# Altium schematic symbol library Terminal_Blocks_Spring_Clamp_2.54mm.SchLib: 12 symbols
Pins are listed as number, name and electrical type; pins without a type are passive.

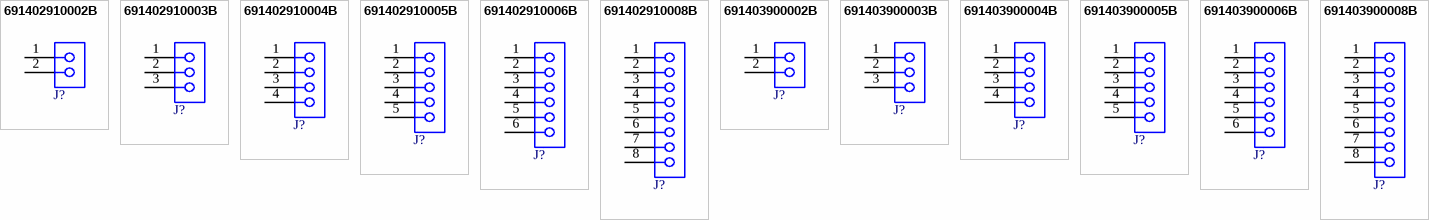
[diagram p0: symbols 691402910002B to 691403900008B]

## 691402910002B
designator J?, comment 6A, 150V  (value not drawn)
WR-TBL Series 4029 Horizontal Entry, THT, pitch 2.54mm, 2p; Manufacturer Part Number: 691402910002B; Manufacturer: Wurth Elektronik; Modularity: No; ComponentLink1Description: Datasheet Link; ComponentLink1URL: https://www.we-online.com/redexpert/spec/691402910002B?ad; ComponentLink2Description: Supplier 1 URL; ComponentLink2URL: N/A; Category: Terminal Blocks; Match Code: WR-TBL; Mount: Through Hole; Operating Temperature Max: 105°C; Operating Temperature Min: -40°C; Packaging: Box; Application: Screwless; Number of Pins: 2; Number of Rows: 1; Orientation: Horizontal; Pitch: 2.54mm; Rated Current: 6A; Working Voltage: 150V; ComponentLink3Description: Supplier 2 URL; ComponentLink3URL: N/A; ComponentLink4Description: Supplier 3 URL; ComponentLink4URL: https://www.thegioiic.com/kf141-2-54-2-r-terminal-block-2-tiep-diem-cam-day-ngang-2-54mm-150v-2a; Supplier 1 Name: Mouser; Supplier 1 SN: N/A; Supplier 1 URL: N/A; Supplier 2 Name: Digi-Key; Supplier 2 SN: N/A; Supplier 2 URL: N/A; Supplier 3 Name: thegioiic; Supplier 3 SN: N/A; Supplier 3 URL: https://www.thegioiic.com/kf141-2-54-2-r-terminal-block-2-tiep-diem-cam-day-ngang-2-54mm-150v-2a; Value: 6A, 150V
footprint 691402910002B
pins: 1, 2

## 691402910003B
designator J?, comment 6A, 150V  (value not drawn)
WR-TBL Series 4029 Horizontal Entry, THT, pitch 2.54mm, 3p; Manufacturer Part Number: 691402910003B; Manufacturer: Wurth Elektronik; Modularity: No; ComponentLink1Description: Datasheet Link; ComponentLink1URL: https://www.we-online.com/redexpert/spec/691402910003B?ad; ComponentLink2Description: Supplier 1 URL; ComponentLink2URL: N/A; Category: Terminal Blocks; Match Code: WR-TBL; Mount: Through Hole; Operating Temperature Max: 105°C; Operating Temperature Min: -40°C; Packaging: Box; Application: Screwless; Number of Pins: 3; Number of Rows: 1; Orientation: Horizontal; Pitch: 2.54mm; Rated Current: 6A; Working Voltage: 150V; ComponentLink3Description: Supplier 2 URL; ComponentLink3URL: N/A; ComponentLink4Description: Supplier 3 URL; ComponentLink4URL: https://www.thegioiic.com/kf141-2-54-3-r-terminal-block-3-tiep-diem-cam-day-ngang-2-54mm-150v-2a; Supplier 1 Name: Mouser; Supplier 1 SN: N/A; Supplier 1 URL: N/A; Supplier 2 Name: Digi-Key; Supplier 2 SN: N/A; Supplier 2 URL: N/A; Supplier 3 Name: thegioiic; Supplier 3 SN: N/A; Supplier 3 URL: https://www.thegioiic.com/kf141-2-54-3-r-terminal-block-3-tiep-diem-cam-day-ngang-2-54mm-150v-2a; Value: 6A, 150V
footprint 691402910003B
pins: 1, 2, 3

## 691402910004B
designator J?, comment 6A, 150V  (value not drawn)
WR-TBL Series 4029 Horizontal Entry, THT, pitch 2.54mm, 4p; Manufacturer Part Number: 691402910004B; Manufacturer: Wurth Elektronik; Modularity: No; ComponentLink1Description: Datasheet Link; ComponentLink1URL: https://www.we-online.com/redexpert/spec/691402910004B?ad; ComponentLink2Description: Supplier 1 URL; ComponentLink2URL: N/A; Category: Terminal Blocks; Match Code: WR-TBL; Mount: Through Hole; Operating Temperature Max: 105°C; Operating Temperature Min: -40°C; Packaging: Box; Application: Screwless; Number of Pins: 4; Number of Rows: 1; Orientation: Horizontal; Pitch: 2.54mm; Rated Current: 6A; Working Voltage: 150V; ComponentLink3Description: Supplier 2 URL; ComponentLink3URL: N/A; ComponentLink4Description: Supplier 3 URL; ComponentLink4URL: https://www.thegioiic.com/kf141-2-54-4-r-terminal-block-4-tiep-diem-cam-day-ngang-2-54mm-150v-2a; Supplier 1 Name: Mouser; Supplier 1 SN: N/A; Supplier 1 URL: N/A; Supplier 2 Name: Digi-Key; Supplier 2 SN: N/A; Supplier 2 URL: N/A; Supplier 3 Name: thegioiic; Supplier 3 SN: N/A; Supplier 3 URL: https://www.thegioiic.com/kf141-2-54-4-r-terminal-block-4-tiep-diem-cam-day-ngang-2-54mm-150v-2a; Value: 6A, 150V
footprint 691402910004B
pins: 1, 2, 3, 4

## 691402910005B
designator J?, comment 6A, 150V  (value not drawn)
WR-TBL Series 4029 Horizontal Entry, THT, pitch 2.54mm, 5p; Manufacturer Part Number: 691402910005B; Manufacturer: Wurth Elektronik; Modularity: No; ComponentLink1Description: Datasheet Link; ComponentLink1URL: https://www.we-online.com/redexpert/spec/691402910005B?ad; ComponentLink2Description: Supplier 1 URL; ComponentLink2URL: N/A; Category: Terminal Blocks; Match Code: WR-TBL; Mount: Through Hole; Operating Temperature Max: 105°C; Operating Temperature Min: -40°C; Packaging: Box; Application: Screwless; Number of Pins: 5; Number of Rows: 1; Orientation: Horizontal; Pitch: 2.54mm; Rated Current: 6A; Working Voltage: 150V; ComponentLink3Description: Supplier 2 URL; ComponentLink3URL: N/A; ComponentLink4Description: Supplier 3 URL; ComponentLink4URL: https://www.thegioiic.com/kf141-2-54-5-r-terminal-block-5-tiep-diem-cam-day-ngang-2-54mm-150v-2a; Supplier 1 Name: Mouser; Supplier 1 SN: N/A; Supplier 1 URL: N/A; Supplier 2 Name: Digi-Key; Supplier 2 SN: N/A; Supplier 2 URL: N/A; Supplier 3 Name: thegioiic; Supplier 3 SN: N/A; Supplier 3 URL: https://www.thegioiic.com/kf141-2-54-5-r-terminal-block-5-tiep-diem-cam-day-ngang-2-54mm-150v-2a; Value: 6A, 150V
footprint 691402910005B
pins: 1, 2, 3, 4, 5

## 691402910006B
designator J?, comment 6A, 150V  (value not drawn)
WR-TBL Series 4029 Horizontal Entry, THT, pitch 2.54mm, 6p; Manufacturer Part Number: 691402910006B; Manufacturer: Wurth Elektronik; Modularity: No; ComponentLink1Description: Datasheet Link; ComponentLink1URL: https://www.we-online.com/redexpert/spec/691402910006B?ad; ComponentLink2Description: Supplier 1 URL; ComponentLink2URL: N/A; Category: Terminal Blocks; Match Code: WR-TBL; Mount: Through Hole; Operating Temperature Max: 105°C; Operating Temperature Min: -40°C; Packaging: Box; Application: Screwless; Number of Pins: 6; Number of Rows: 1; Orientation: Horizontal; Pitch: 2.54mm; Rated Current: 6A; Working Voltage: 150V; ComponentLink3Description: Supplier 2 URL; ComponentLink3URL: N/A; ComponentLink4Description: Supplier 3 URL; ComponentLink4URL: https://www.thegioiic.com/kf141-2-54-6-r-terminal-block-6-tiep-diem-cam-day-ngang-2-54mm-150v-2a; Supplier 1 Name: Mouser; Supplier 1 SN: N/A; Supplier 1 URL: N/A; Supplier 2 Name: Digi-Key; Supplier 2 SN: N/A; Supplier 2 URL: N/A; Supplier 3 Name: thegioiic; Supplier 3 SN: N/A; Supplier 3 URL: https://www.thegioiic.com/kf141-2-54-6-r-terminal-block-6-tiep-diem-cam-day-ngang-2-54mm-150v-2a; Value: 6A, 150V
footprint 691402910006B
pins: 1, 2, 3, 4, 5, 6

## 691402910008B
designator J?, comment 6A, 150V  (value not drawn)
WR-TBL Series 4029 Horizontal Entry, THT, pitch 2.54mm, 8p; Manufacturer Part Number: 691402910008B; Manufacturer: Wurth Elektronik; Modularity: No; ComponentLink1Description: Datasheet Link; ComponentLink1URL: https://www.we-online.com/redexpert/spec/691402910008B?ad; ComponentLink2Description: Supplier 1 URL; ComponentLink2URL: N/A; Category: Terminal Blocks; Match Code: WR-TBL; Mount: Through Hole; Operating Temperature Max: 105°C; Operating Temperature Min: -40°C; Packaging: Box; Application: Screwless; Number of Pins: 8; Number of Rows: 1; Orientation: Horizontal; Pitch: 2.54mm; Rated Current: 6A; Working Voltage: 150V; ComponentLink3Description: Supplier 2 URL; ComponentLink3URL: N/A; ComponentLink4Description: Supplier 3 URL; ComponentLink4URL: https://www.thegioiic.com/kf141-2-54-8-v-terminal-block-8-tiep-diem-cam-day-doc-2-54mm-150v-2a; Supplier 1 Name: Mouser; Supplier 1 SN: N/A; Supplier 1 URL: N/A; Supplier 2 Name: Digi-Key; Supplier 2 SN: N/A; Supplier 2 URL: N/A; Supplier 3 Name: thegioiic; Supplier 3 SN: N/A; Supplier 3 URL: https://www.thegioiic.com/kf141-2-54-8-v-terminal-block-8-tiep-diem-cam-day-doc-2-54mm-150v-2a; Value: 6A, 150V
footprint 691402910008B
pins: 1, 2, 3, 4, 5, 6, 7, 8

## 691403900002B
designator J?, comment 6A, 150V  (value not drawn)
WR-TBL Series 4039 Vertical Entry, THT, pitch 2.54mm, 2p; Manufacturer Part Number: 691403900002B; Manufacturer: Wurth Elektronik; Modularity: No; ComponentLink1Description: Datasheet Link; ComponentLink1URL: https://www.we-online.com/redexpert/spec/691403900002B?ad; ComponentLink2Description: Supplier 1 URL; ComponentLink2URL: N/A; Category: Terminal Blocks; Match Code: WR-TBL; Mount: Through Hole; Operating Temperature Max: 105°C; Operating Temperature Min: -40°C; Packaging: Box; Application: Screwless; Number of Pins: 2; Number of Rows: 1; Orientation: Vertical; Pitch: 2.54mm; Rated Current: 6A; Working Voltage: 150V; ComponentLink3Description: Supplier 2 URL; ComponentLink3URL: N/A; ComponentLink4Description: Supplier 3 URL; ComponentLink4URL: https://www.thegioiic.com/kf141-2-54-2-v-terminal-block-2-tiep-diem-cam-day-doc-2-54mm-150v-2a; Supplier 1 Name: Mouser; Supplier 1 SN: N/A; Supplier 1 URL: N/A; Supplier 2 Name: Digi-Key; Supplier 2 SN: N/A; Supplier 2 URL: N/A; Supplier 3 Name: thegioiic; Supplier 3 SN: N/A; Supplier 3 URL: https://www.thegioiic.com/kf141-2-54-2-v-terminal-block-2-tiep-diem-cam-day-doc-2-54mm-150v-2a; Value: 6A, 150V
footprint 691403900002B
pins: 1, 2

## 691403900003B
designator J?, comment 6A, 150V  (value not drawn)
WR-TBL Series 4039 Vertical Entry, THT, pitch 2.54mm, 3p; Manufacturer Part Number: 691403900003B; Manufacturer: Wurth Elektronik; Modularity: No; ComponentLink1Description: Datasheet Link; ComponentLink1URL: https://www.we-online.com/redexpert/spec/691403900003B?ad; ComponentLink2Description: Supplier 1 URL; ComponentLink2URL: N/A; Category: Terminal Blocks; Match Code: WR-TBL; Mount: Through Hole; Operating Temperature Max: 105°C; Operating Temperature Min: -40°C; Packaging: Box; Application: Screwless; Number of Pins: 3; Number of Rows: 1; Orientation: Vertical; Pitch: 2.54mm; Rated Current: 6A; Working Voltage: 150V; ComponentLink3Description: Supplier 2 URL; ComponentLink3URL: N/A; ComponentLink4Description: Supplier 3 URL; ComponentLink4URL: https://www.thegioiic.com/kf141-2-54-3-v-terminal-block-3-tiep-diem-cam-day-doc-2-54mm-150v-2a; Supplier 1 Name: Mouser; Supplier 1 SN: N/A; Supplier 1 URL: N/A; Supplier 2 Name: Digi-Key; Supplier 2 SN: N/A; Supplier 2 URL: N/A; Supplier 3 Name: thegioiic; Supplier 3 SN: N/A; Supplier 3 URL: https://www.thegioiic.com/kf141-2-54-3-v-terminal-block-3-tiep-diem-cam-day-doc-2-54mm-150v-2a; Value: 6A, 150V
footprint 691403900003B
pins: 1, 2, 3

## 691403900004B
designator J?, comment 6A, 150V  (value not drawn)
WR-TBL Series 4039 Vertical Entry, THT, pitch 2.54mm, 4p; Manufacturer Part Number: 691403900004B; Manufacturer: Wurth Elektronik; Modularity: No; ComponentLink1Description: Datasheet Link; ComponentLink1URL: https://www.we-online.com/redexpert/spec/691403900004B?ad; ComponentLink2Description: Supplier 1 URL; ComponentLink2URL: N/A; Category: Terminal Blocks; Match Code: WR-TBL; Mount: Through Hole; Operating Temperature Max: 105°C; Operating Temperature Min: -40°C; Packaging: Box; Application: Screwless; Number of Pins: 4; Number of Rows: 1; Orientation: Vertical; Pitch: 2.54mm; Rated Current: 6A; Working Voltage: 150V; ComponentLink3Description: Supplier 2 URL; ComponentLink3URL: N/A; ComponentLink4Description: Supplier 3 URL; ComponentLink4URL: https://www.thegioiic.com/kf141-2-54-4-v-terminal-block-4-tiep-diem-cam-day-doc-2-54mm-150v-2a; Supplier 1 Name: Mouser; Supplier 1 SN: N/A; Supplier 1 URL: N/A; Supplier 2 Name: Digi-Key; Supplier 2 SN: N/A; Supplier 2 URL: N/A; Supplier 3 Name: thegioiic; Supplier 3 SN: N/A; Supplier 3 URL: https://www.thegioiic.com/kf141-2-54-4-v-terminal-block-4-tiep-diem-cam-day-doc-2-54mm-150v-2a; Value: 6A, 150V
footprint 691403900004B
pins: 1, 2, 3, 4

## 691403900005B
designator J?, comment 6A, 150V  (value not drawn)
WR-TBL Series 4039 Vertical Entry, THT, pitch 2.54mm, 5p; Manufacturer Part Number: 691403900005B; Manufacturer: Wurth Elektronik; Modularity: No; ComponentLink1Description: Datasheet Link; ComponentLink1URL: https://www.we-online.com/redexpert/spec/691403900005B?ad; ComponentLink2Description: Supplier 1 URL; ComponentLink2URL: N/A; Category: Terminal Blocks; Match Code: WR-TBL; Mount: Through Hole; Operating Temperature Max: 105°C; Operating Temperature Min: -40°C; Packaging: Box; Application: Screwless; Number of Pins: 5; Number of Rows: 1; Orientation: Vertical; Pitch: 2.54mm; Rated Current: 6A; Working Voltage: 150V; ComponentLink3Description: Supplier 2 URL; ComponentLink3URL: N/A; ComponentLink4Description: Supplier 3 URL; ComponentLink4URL: https://www.thegioiic.com/kf141-2-54-5-v-terminal-block-5-tiep-diem-cam-day-doc-2-54mm-150v-2a; Supplier 1 Name: Mouser; Supplier 1 SN: N/A; Supplier 1 URL: N/A; Supplier 2 Name: Digi-Key; Supplier 2 SN: N/A; Supplier 2 URL: N/A; Supplier 3 Name: thegioiic; Supplier 3 SN: N/A; Supplier 3 URL: https://www.thegioiic.com/kf141-2-54-5-v-terminal-block-5-tiep-diem-cam-day-doc-2-54mm-150v-2a; Value: 6A, 150V
footprint 691403900005B
pins: 1, 2, 3, 4, 5

## 691403900006B
designator J?, comment 6A, 150V  (value not drawn)
WR-TBL Series 4039 Vertical Entry, THT, pitch 2.54mm, 6p; Manufacturer Part Number: 691403900006B; Manufacturer: Wurth Elektronik; Modularity: No; ComponentLink1Description: Datasheet Link; ComponentLink1URL: https://www.we-online.com/redexpert/spec/691403900006B?ad; ComponentLink2Description: Supplier 1 URL; ComponentLink2URL: N/A; Category: Terminal Blocks; Match Code: WR-TBL; Mount: Through Hole; Operating Temperature Max: 105°C; Operating Temperature Min: -40°C; Packaging: Box; Application: Screwless; Number of Pins: 6; Number of Rows: 1; Orientation: Vertical; Pitch: 2.54mm; Rated Current: 6A; Working Voltage: 150V; ComponentLink3Description: Supplier 2 URL; ComponentLink3URL: N/A; ComponentLink4Description: Supplier 3 URL; ComponentLink4URL: https://www.thegioiic.com/product/terminal-domino-han-pcb?prid=8217,8195; Supplier 1 Name: Mouser; Supplier 1 SN: N/A; Supplier 1 URL: N/A; Supplier 2 Name: Digi-Key; Supplier 2 SN: N/A; Supplier 2 URL: N/A; Supplier 3 Name: thegioiic; Supplier 3 SN: N/A; Supplier 3 URL: https://www.thegioiic.com/product/terminal-domino-han-pcb?prid=8217,8195; Value: 6A, 150V
footprint 691403900006B
pins: 1, 2, 3, 4, 5, 6

## 691403900008B
designator J?, comment 6A, 150V  (value not drawn)
WR-TBL Series 4039 Vertical Entry, THT, pitch 2.54mm, 8p; Manufacturer Part Number: 691403900008B; Manufacturer: Wurth Elektronik; Modularity: No; ComponentLink1Description: Datasheet Link; ComponentLink1URL: https://www.we-online.com/redexpert/spec/691403900008B?ad; ComponentLink2Description: Supplier 1 URL; ComponentLink2URL: N/A; Category: Terminal Blocks; Match Code: WR-TBL; Mount: Through Hole; Operating Temperature Max: 105°C; Operating Temperature Min: -40°C; Packaging: Box; Application: Screwless; Number of Pins: 8; Number of Rows: 1; Orientation: Vertical; Pitch: 2.54mm; Rated Current: 6A; Working Voltage: 150V; ComponentLink3Description: Supplier 2 URL; ComponentLink3URL: N/A; ComponentLink4Description: Supplier 3 URL; ComponentLink4URL: https://www.thegioiic.com/kf141-2-54-8-v-terminal-block-8-tiep-diem-cam-day-doc-2-54mm-150v-2a; Supplier 1 Name: Mouser; Supplier 1 SN: N/A; Supplier 1 URL: N/A; Supplier 2 Name: Digi-Key; Supplier 2 SN: N/A; Supplier 2 URL: N/A; Supplier 3 Name: thegioiic; Supplier 3 SN: N/A; Supplier 3 URL: https://www.thegioiic.com/kf141-2-54-8-v-terminal-block-8-tiep-diem-cam-day-doc-2-54mm-150v-2a; Value: 6A, 150V
footprint 691403900008B
pins: 1, 2, 3, 4, 5, 6, 7, 8